# EAGLE library part NE555 (library Elecrow_IC)
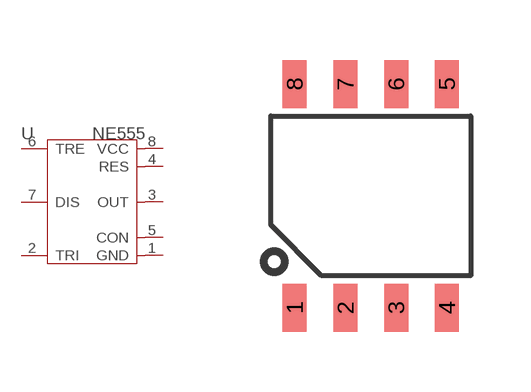
[diagram p54: symbol with the pads of SOIC8-6.0; footprint SOIC8-6.0]

Designator prefix U

## NE555D  [SOIC8-6.0]
1  GND
2  TRI
3  OUT
4  RES
5  CON
6  TRE
7  DIS
8  VCC

## Footprint SOIC8-6.0 (pad centres in mm)
smd 0.6 x 1.2: 1 -1.905,-2.8; 2 -0.635,-2.8; 3 0.635,-2.8; 4 1.905,-2.8; 5 1.905,2.8; 6 0.635,2.8; 7 -0.635,2.8; 8 -1.905,2.8